# Altium footprint library 130020900#NIP_PD_电路板印制板.PcbLib: 105 footprints (part 5 of 7)
Each footprint in its own frame and in the unit in brackets; x right, y up, seen from the top. Pads: shape width x height; smd on the part's side, far side on the other; paste and mask are expansions set on the pad; w line width, h text height; cw(c..) or ccw(c..) is an arc to the next point about the centre after c.
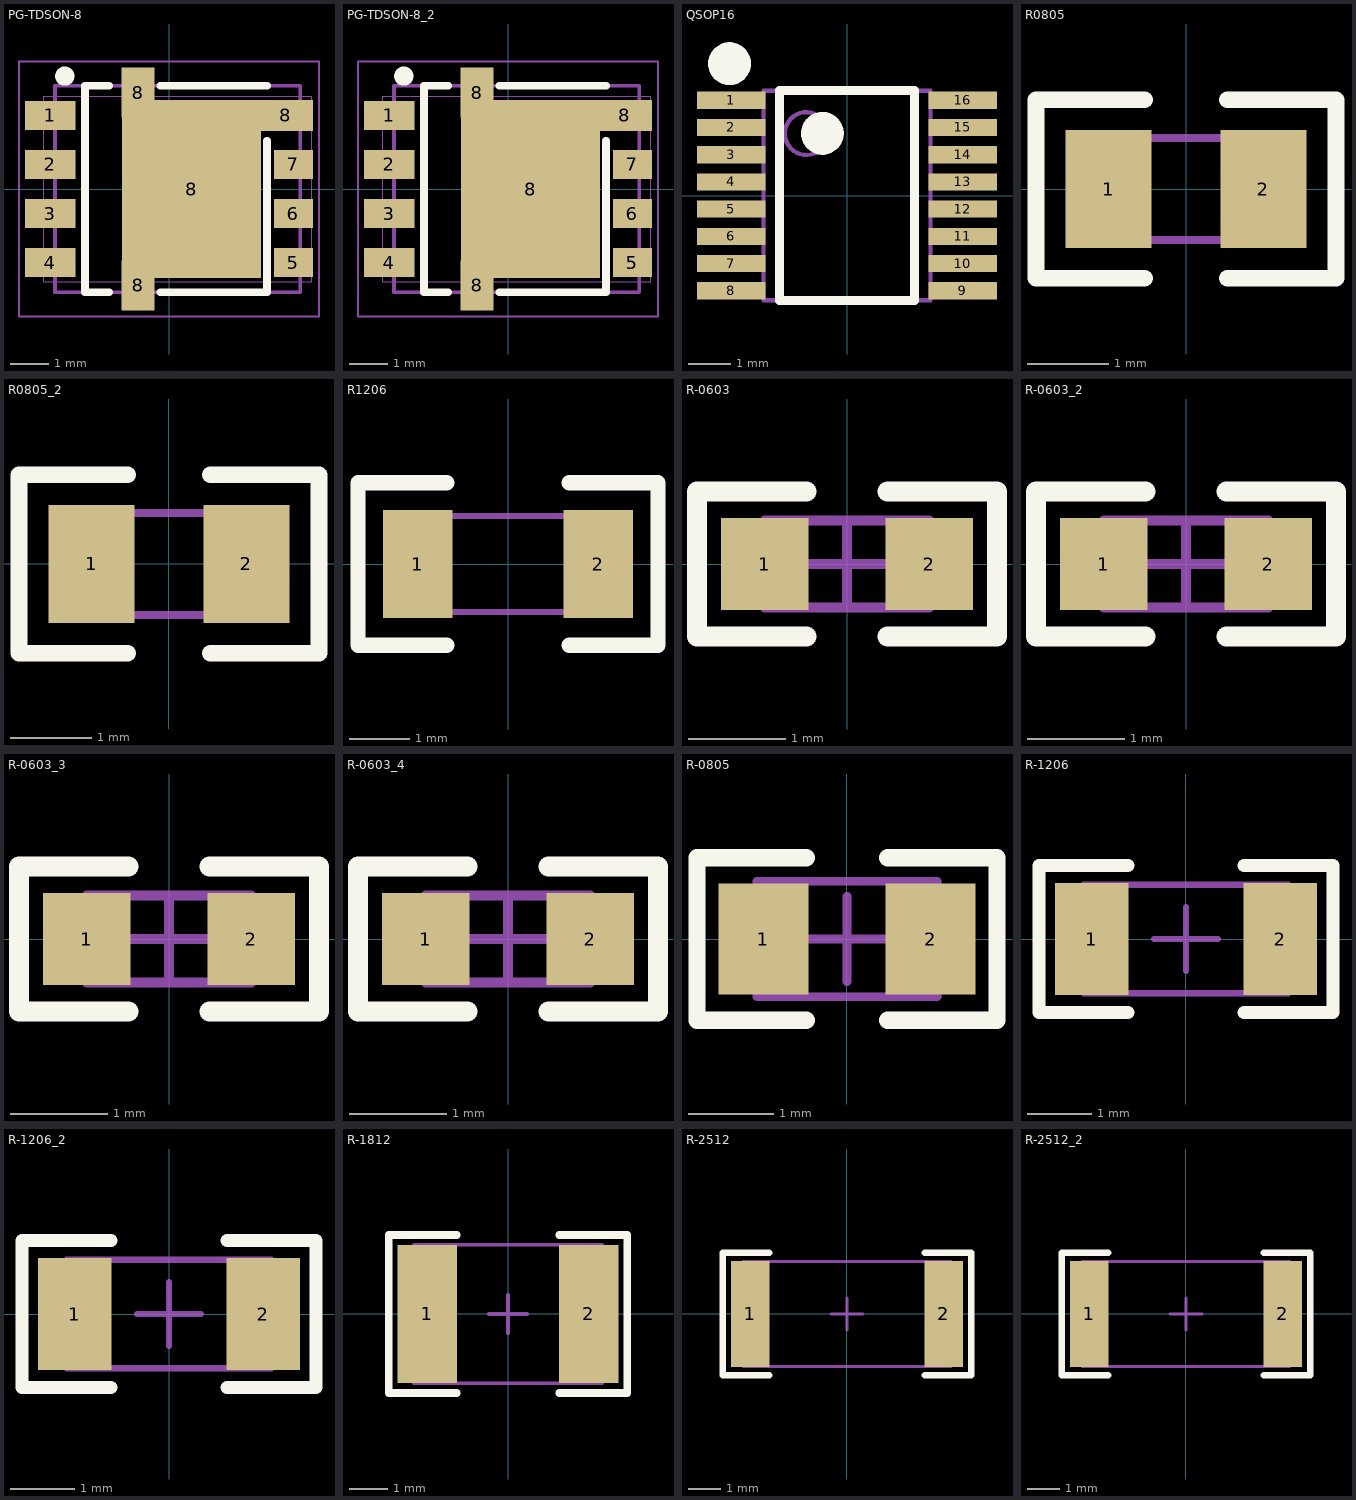
[diagram p4: the footprints below, top view; thin cyan lines are the x and y axes]

## PG-TDSON-8 [mm]
height 1.25
pads (11):
  rect 1.3x0.75 smd: 1(-3.075,1.905) 2(-3.075,0.635) 3(-3.075,-0.635) 4(-3.075,-1.905)
  rect 1x0.75 smd: 5(3.225,-1.905) 6(3.225,-0.635) 7(3.225,0.635)
  rect 0.85x1.3 smd: 8(-0.8,-2.5) 8(-0.8,2.5)
  rect 3.6x4.6 smd: 8(0.585,0)
  rect 1.4x0.8 smd: 8(3.025,1.905)
Top Overlay:
  circle w0.25: c-2.7,2.925 r0.125
  lines w0.203: -2.173,-2.675 -2.173,2.675 ; -2.159,-2.675 -1.553,-2.675 ; -2.159,2.675 -1.553,2.675 ; -0.225,-2.675 2.54,-2.675 2.54,1.25 ; -0.225,2.675 2.54,2.675
Mechanical 13:
  lines w0.1: -2.95,-2.675 3.4,-2.675 3.4,2.675 -2.95,2.675 -2.95,-2.675
Mechanical 15:
  lines w0.001: -3.25,-2.4 3.7,-2.4 3.7,2.4 -3.25,2.4 -3.25,-2.4
  lines w0.05: -0.5,0 0.5,0 ; 0,-0.5 0,0.5 ; -3.886,-3.302 3.886,-3.302 3.886,3.302 -3.886,3.302 -3.886,-3.302
Mechanical 16:
  circle w0.05: c0.225,0 r0.35
3D body: height 1, standoff 0.09, extent -2.95,-2.675 3.4,2.675

## PG-TDSON-8_2 [mm]
pads (11):
  rect 1.3x0.75 smd: 1(-3.075,1.905) 2(-3.075,0.635) 3(-3.075,-0.635) 4(-3.075,-1.905)
  rect 1x0.75 smd: 5(3.225,-1.905) 6(3.225,-0.635) 7(3.225,0.635)
  rect 0.85x1.3 smd: 8(-0.8,-2.5) 8(-0.8,2.5)
  rect 3.6x4.6 smd: 8(0.585,0)
  rect 1.4x0.8 smd: 8(3.025,1.905)
Top Overlay:
  circle w0.25: c-2.7,2.925 r0.125
  lines w0.203: -2.173,-2.675 -2.173,2.675 ; -2.159,-2.675 -1.553,-2.675 ; -2.159,2.675 -1.553,2.675 ; -0.225,-2.675 2.54,-2.675 2.54,1.25 ; -0.225,2.675 2.54,2.675
Mechanical 13:
  lines w0.1: -2.95,-2.675 -2.95,2.675 3.4,2.675 3.4,-2.675 -2.95,-2.675
Mechanical 15:
  lines w0.001: -3.25,-2.4 -3.25,2.4 3.7,2.4 3.7,-2.4 -3.25,-2.4
  lines w0.05: -0.5,0 0.5,0 ; 0,-0.5 0,0.5 ; -3.886,-3.302 -3.886,3.302 3.886,3.302 3.886,-3.302 -3.886,-3.302
Mechanical 16:
  circle w0.05: c0.225,0 r0.35
3D body: height 1, standoff 0.09, extent -2.95,-2.675 3.4,2.675

## QSOP16 [mm]
pads (16):
  rect 1.6x0.4 smd: 1(-2.7,2.222) 2(-2.7,1.587) 3(-2.7,0.953) 4(-2.7,0.318) 5(-2.7,-0.318) 6(-2.7,-0.953) 7(-2.7,-1.587) 8(-2.7,-2.222) 9(2.7,-2.222) 10(2.7,-1.587) 11(2.7,-0.953) 12(2.7,-0.318) 13(2.7,0.318) 14(2.7,0.953) 15(2.7,1.587) 16(2.7,2.222)
Top Overlay:
  circle w0.5: c-0.575,1.45 r0.25
  circle w0.5: c-2.742,3.077 r0.25
  lines w0.2: -1.575,-2.45 1.575,-2.45 1.575,2.45 -1.575,2.45 -1.575,-2.45
Mechanical 15:
  circle w0.1: c-0.95,1.445 r0.5
  lines w0.1: -1.95,-2.445 1.95,-2.445 1.95,2.445 -1.95,2.445 -1.95,-2.445

## R0805 [mm]
height 1.25
pads (2):
  rect 1.05x1.45 smd: 1(-0.95,0) 2(0.95,0)
Top Overlay:
  lines w0.203: -0.508,-1.092 -1.839,-1.092 -1.839,1.092 -0.508,1.092 ; 0.508,-1.092 1.839,-1.092 1.839,1.092 0.508,1.092
Mechanical 15:
  lines w0.1: -1,-0.625 1,-0.625 1,0.625 -1,0.625 -1,-0.625

## R0805_2 [mm]
pads (2):
  rect 1.05x1.45 smd: 1(-0.95,0) 2(0.95,0)
Top Overlay:
  lines w0.203: -0.508,-1.092 -1.839,-1.092 -1.839,1.092 -0.508,1.092 ; 0.508,-1.092 1.839,-1.092 1.839,1.092 0.508,1.092
Mechanical 15:
  lines w0.1: -1,-0.625 -1,0.625 1,0.625 1,-0.625 -1,-0.625

## R1206 [mm]
pads (2):
  rect 1.15x1.8 smd: 1(-1.5,0) 2(1.5,0)
Top Overlay:
  lines w0.254: -1.016,-1.346 -2.489,-1.346 -2.489,1.346 -1.016,1.346 ; 1.016,-1.346 2.489,-1.346 2.489,1.346 1.016,1.346
Mechanical 15:
  lines w0.1: -1.6,-0.8 -1.6,0.8 1.6,0.8 1.6,-0.8 -1.6,-0.8

## R-0603 [mm] "Chip Resistor, 2-Leads, Body 1.60x0.80mm, IPC Medium Density"
height 0.45
pads (2):
  rect 0.9x0.95 smd: 1(-0.85,0) 2(0.85,0)
Top Overlay:
  lines w0.203: -0.418,-0.75 -1.55,-0.75 -1.55,0.75 -0.418,0.75 ; 0.418,-0.75 1.55,-0.75 1.55,0.75 0.418,0.75
Mechanical 13:
  lines w0.1: -0.85,-0.45 -0.85,0.45 0.85,0.45 0.85,-0.45 -0.85,-0.45
Mechanical 15:
  lines w0.1: -0.45,0 0.45,0 ; 0,-0.45 0,0.45
3D body: height 0.45, standoff 0, extent -0.6,-0.45 0.6,0.45
3D body: height 0.45, standoff 0, extent -0.85,-0.45 -0.6,0.45
3D body: height 0.45, standoff 0, extent 0.6,-0.45 0.85,0.45

## R-0603_2 [mm]
pads (2):
  rect 0.9x0.95 smd: 1(-0.85,0) 2(0.85,0)
Top Overlay:
  lines w0.203: -0.418,-0.75 -1.55,-0.75 -1.55,0.75 -0.418,0.75 ; 0.418,-0.75 1.55,-0.75 1.55,0.75 0.418,0.75
Mechanical 13:
  lines w0.1: -0.85,-0.45 0.85,-0.45 0.85,0.45 -0.85,0.45 -0.85,-0.45
Mechanical 15:
  lines w0.1: -0.45,0 0.45,0 ; 0,-0.45 0,0.45
3D body: height 0.45, standoff 0, extent 0.6,-0.45 0.85,0.45
3D body: height 0.45, standoff 0, extent -0.85,-0.45 -0.6,0.45
3D body: height 0.45, standoff 0, extent -0.6,-0.45 0.6,0.45

## R-0603_3 [mm]
pads (2):
  rect 0.9x0.95 smd: 1(-0.85,0) 2(0.85,0)
Top Overlay:
  lines w0.203: -0.418,-0.75 -1.55,-0.75 -1.55,0.75 -0.418,0.75 ; 0.418,-0.75 1.55,-0.75 1.55,0.75 0.418,0.75
Mechanical 13:
  lines w0.1: -0.85,-0.45 -0.85,0.45 0.85,0.45 0.85,-0.45 -0.85,-0.45
Mechanical 15:
  lines w0.1: -0.45,0 0.45,0 ; 0,-0.45 0,0.45
3D body: height 0.45, standoff 0, extent -0.6,-0.45 0.6,0.45
3D body: height 0.45, standoff 0, extent -0.85,-0.45 -0.6,0.45
3D body: height 0.45, standoff 0, extent 0.6,-0.45 0.85,0.45

## R-0603_4 [mm]
pads (2):
  rect 0.9x0.95 smd: 1(-0.85,0) 2(0.85,0)
Top Overlay:
  lines w0.203: -0.418,-0.75 -1.55,-0.75 -1.55,0.75 -0.418,0.75 ; 0.418,-0.75 1.55,-0.75 1.55,0.75 0.418,0.75
Mechanical 13:
  lines w0.1: -0.85,-0.45 -0.85,0.45 0.85,0.45 0.85,-0.45 -0.85,-0.45
Mechanical 15:
  lines w0.1: -0.45,0 0.45,0 ; 0,-0.45 0,0.45
3D body: height 0.45, standoff 0, extent -0.6,-0.45 0.6,0.45
3D body: height 0.45, standoff 0, extent -0.85,-0.45 -0.6,0.45
3D body: height 0.45, standoff 0, extent 0.6,-0.45 0.85,0.45

## R-0805 [mm] "Chip Resistor, 2-Leads, Body 2.00x1.25mm, IPC Medium Density"
height 0.5
pads (2):
  rect 1.05x1.3 smd: 1(-0.975,0) 2(0.975,0)
Top Overlay:
  lines w0.203: -0.477,-0.95 -1.75,-0.95 -1.75,0.95 -0.477,0.95 ; 0.477,-0.95 1.75,-0.95 1.75,0.95 0.477,0.95
Mechanical 13:
  lines w0.1: -1.05,-0.675 1.05,-0.675 1.05,0.675 -1.05,0.675 -1.05,-0.675
Mechanical 15:
  lines w0.1: -0.5,0 0.5,0 ; 0,-0.5 0,0.5
3D body: height 0.5, standoff 0, extent 0.7,-0.675 1.05,0.675
3D body: height 0.5, standoff 0, extent -1.05,-0.675 -0.7,0.675
3D body: height 0.5, standoff 0, extent -0.7,-0.675 0.7,0.675

## R-1206 [mm] "Chip Resistor, 2-Leads, Body 3.10x1.60mm, IPC Medium Density"
height 0.55
pads (2):
  rect 1.15x1.75 smd: 1(-1.475,0) 2(1.475,0)
Top Overlay:
  lines w0.203: -0.911,-1.15 -2.3,-1.15 -2.3,1.15 -0.911,1.15 ; 0.911,-1.15 2.3,-1.15 2.3,1.15 0.911,1.15
Mechanical 13:
  lines w0.1: -1.6,-0.85 1.6,-0.85 1.6,0.85 -1.6,0.85 -1.6,-0.85
Mechanical 15:
  lines w0.1: -0.5,0 0.5,0 ; 0,-0.5 0,0.5
3D body: height 0.55, standoff 0, extent 1.15,-0.85 1.6,0.85
3D body: height 0.55, standoff 0, extent -1.6,-0.85 -1.15,0.85
3D body: height 0.55, standoff 0, extent -1.15,-0.85 1.15,0.85

## R-1206_2 [mm]
pads (2):
  rect 1.15x1.75 smd: 1(-1.475,0) 2(1.475,0)
Top Overlay:
  lines w0.203: -0.911,-1.15 -2.3,-1.15 -2.3,1.15 -0.911,1.15 ; 0.911,-1.15 2.3,-1.15 2.3,1.15 0.911,1.15
Mechanical 13:
  lines w0.1: -1.6,-0.85 -1.6,0.85 1.6,0.85 1.6,-0.85 -1.6,-0.85
Mechanical 15:
  lines w0.1: -0.5,0 0.5,0 ; 0,-0.5 0,0.5
3D body: height 0.55, standoff 0, extent -1.15,-0.85 1.15,0.85
3D body: height 0.55, standoff 0, extent -1.6,-0.85 -1.15,0.85
3D body: height 0.55, standoff 0, extent 1.15,-0.85 1.6,0.85

## R-1812 [mm] "Chip Resistor, 2-Leads, Body 4.50x3.20mm, IPC Medium Density"
height 0.55
pads (2):
  rect 1.55x3.6 smd: 1(-2.1,0) 2(2.1,0)
Top Overlay:
  lines w0.203: -1.334,-2.05 -3.1,-2.05 -3.1,2.05 -1.334,2.05 ; 1.334,-2.05 3.1,-2.05 3.1,2.05 1.334,2.05
Mechanical 13:
  lines w0.1: -2.45,-1.8 -2.45,1.8 2.45,1.8 2.45,-1.8 -2.45,-1.8
Mechanical 15:
  lines w0.1: -0.5,0 0.5,0 ; 0,-0.5 0,0.5
3D body: height 0.55, standoff 0, extent -1.95,-1.8 1.95,1.8
3D body: height 0.55, standoff 0, extent -2.45,-1.8 -1.95,1.8
3D body: height 0.55, standoff 0, extent 1.95,-1.8 2.45,1.8

## R-2512 [mm] "Chip Resistor, 2-Leads, Body 6.35x3.10mm, IPC Medium Density"
height 0.55
pads (2):
  rect 1.2x3.3 smd: 1(-3,0) 2(3,0)
Top Overlay:
  lines w0.203: -2.412,-1.9 -3.85,-1.9 -3.85,1.9 -2.412,1.9 ; 2.412,-1.9 3.85,-1.9 3.85,1.9 2.412,1.9
Mechanical 13:
  lines w0.1: -3.225,-1.625 3.225,-1.625 3.225,1.625 -3.225,1.625 -3.225,-1.625
Mechanical 15:
  lines w0.1: -0.5,0 0.5,0 ; 0,-0.5 0,0.5
3D body: height 0.55, standoff 0, extent 2.625,-1.625 3.225,1.625
3D body: height 0.55, standoff 0, extent -3.225,-1.625 -2.625,1.625
3D body: height 0.55, standoff 0, extent -2.625,-1.625 2.625,1.625

## R-2512_2 [mm]
pads (2):
  rect 1.2x3.3 smd: 1(-3,0) 2(3,0)
Top Overlay:
  lines w0.203: -2.412,-1.9 -3.85,-1.9 -3.85,1.9 -2.412,1.9 ; 2.412,-1.9 3.85,-1.9 3.85,1.9 2.412,1.9
Mechanical 13:
  lines w0.1: -3.225,-1.625 3.225,-1.625 3.225,1.625 -3.225,1.625 -3.225,-1.625
Mechanical 15:
  lines w0.1: -0.5,0 0.5,0 ; 0,-0.5 0,0.5
3D body: height 0.55, standoff 0, extent 2.625,-1.625 3.225,1.625
3D body: height 0.55, standoff 0, extent -3.225,-1.625 -2.625,1.625
3D body: height 0.55, standoff 0, extent -2.625,-1.625 2.625,1.625